# EAGLE library part PIC24F16KA101-X_P (library components)
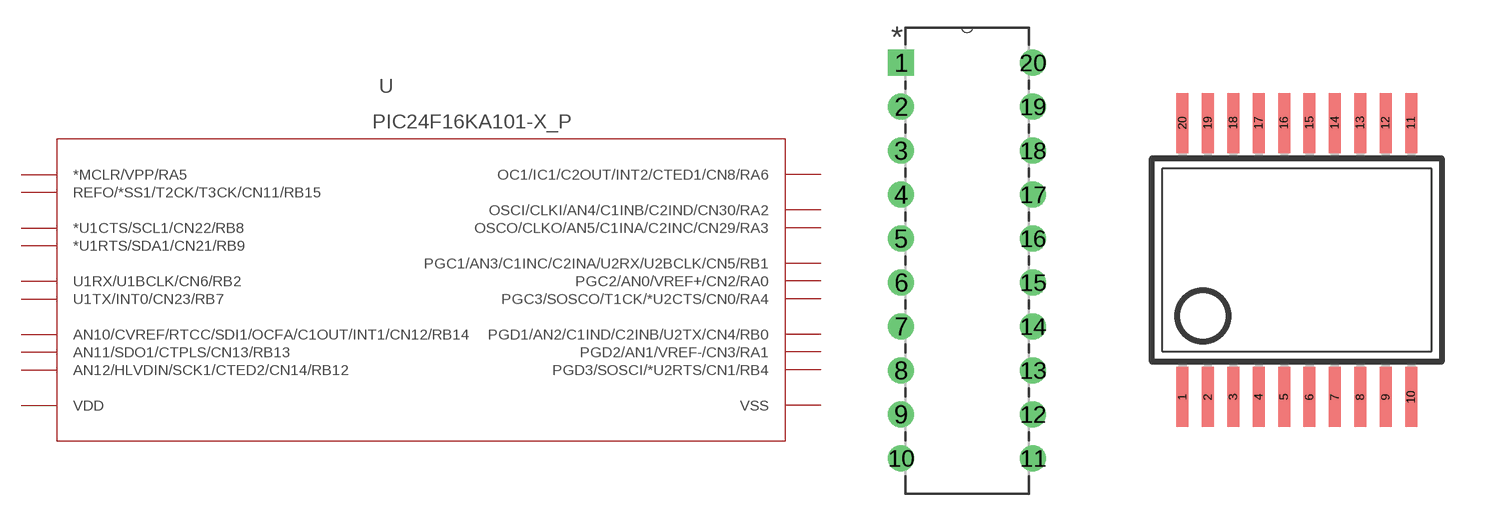
[diagram p0: symbol with the pads of PDIP20_300MC; footprints PDIP20_300MC, SSOP20]

Designator prefix -

## PIC24F16KA101-X_P  [PDIP20_300MC]
1  *MCLR/VPP/RA5
2  PGC2/AN0/VREF+/CN2/RA0
3  PGD2/AN1/VREF-/CN3/RA1
4  PGD1/AN2/C1IND/C2INB/U2TX/CN4/RB0
5  PGC1/AN3/C1INC/C2INA/U2RX/U2BCLK/CN5/RB1
6  U1RX/U1BCLK/CN6/RB2
7  OSCI/CLKI/AN4/C1INB/C2IND/CN30/RA2
8  OSCO/CLKO/AN5/C1INA/C2INC/CN29/RA3
9  PGD3/SOSCI/*U2RTS/CN1/RB4
10  PGC3/SOSCO/T1CK/*U2CTS/CN0/RA4
11  U1TX/INT0/CN23/RB7
12  *U1CTS/SCL1/CN22/RB8
13  *U1RTS/SDA1/CN21/RB9
14  OC1/IC1/C2OUT/INT2/CTED1/CN8/RA6
15  AN12/HLVDIN/SCK1/CTED2/CN14/RB12
16  AN11/SDO1/CTPLS/CN13/RB13
17  AN10/CVREF/RTCC/SDI1/OCFA/C1OUT/INT1/CN12/RB14
18  REFO/*SS1/T2CK/T3CK/CN11/RB15
19  VSS  pwr
20  VDD  pwr

## PIC24F16KA101-X_PSSOP  [SSOP20]
Pads as for PDIP20_300MC

## Footprint PDIP20_300MC (pad centres in mm)
drill 0.991 square: 1 -7.62,22.86
drill 0.991: 2 -7.62,20.32; 3 -7.62,17.78; 4 -7.62,15.24; 5 -7.62,12.7; 6 -7.62,10.16; 7 -7.62,7.62; 8 -7.62,5.08; 9 -7.62,2.54; 10 -7.62,0; 11 0,0; 12 0,2.54; 13 0,5.08; 14 0,7.62; 15 0,10.16; 16 0,12.7; 17 0,15.24; 18 0,17.78; 19 0,20.32; 20 0,22.86

## Footprint SSOP20 (pad centres in mm)
Small Shrink Outline Package
smd 0.3 x 1.5: 1 -2.857,-3.431; 2 -2.222,-3.431; 3 -1.587,-3.431; 4 -0.952,-3.431; 5 -0.317,-3.431; 6 0.318,-3.431; 7 0.953,-3.431; 8 1.588,-3.431; 9 2.223,-3.431; 10 2.858,-3.431; 11 2.858,3.431; 12 2.219,3.431; 13 1.588,3.431; 14 0.953,3.431; 15 0.318,3.431; 16 -0.317,3.431; 17 -0.952,3.431; 18 -1.587,3.431; 19 -2.222,3.431; 20 -2.857,3.431